# Altium footprint library PcbLibHGCD.PcbLib: 18 footprints (part 2 of 2)
Each footprint in its own frame and in the unit in brackets; x right, y up, seen from the top. Pads: shape width x height; smd on the part's side, far side on the other; paste and mask are expansions set on the pad; w line width, h text height; cw(c..) or ccw(c..) is an arc to the next point about the centre after c.
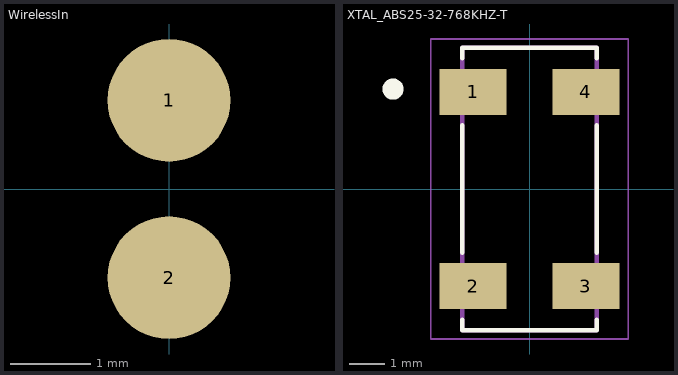
[diagram p1: the footprints below, top view; thin cyan lines are the x and y axes]

## WirelessIn [mil]
pads (2):
  round 60 smd: 1(0,43.31) 2(0,-43.31)

## XTAL_ABS25-32-768KHZ-T [mm]
pads (4):
  rect 1.9x1.3 smd: 1(-1.6,2.75) 2(-1.6,-2.75) 3(1.6,-2.75) 4(1.6,2.75)
Top Overlay:
  circle w0.3: c-3.87,2.83 r0.15
  lines w0.127: -1.9,-3.7 -1.9,-4 1.9,-4 1.9,-3.7 ; -1.9,-1.8 -1.9,1.8 ; -1.9,3.7 -1.9,4 1.9,4 1.9,3.7 ; 1.9,-1.8 1.9,1.8
Mechanical 1:
  lines w0.05: -2.8,-4.25 2.8,-4.25 2.8,4.25 -2.8,4.25 -2.8,-4.25
  lines w0.127: -1.9,-4 1.9,-4 1.9,4 -1.9,4 -1.9,-4